# EAGLE library part 430450627 (library 430450627)
Micro-Fit 3.0 Vertical Header, 3.00mm Pitch, Dual Row, 6 Circuits, with PCB Polarizing Peg, Glow-Wire Capable, Black Source: Datasheet <https://www.molex.com/pdm_docs/sd/430450227_sd.pdf>
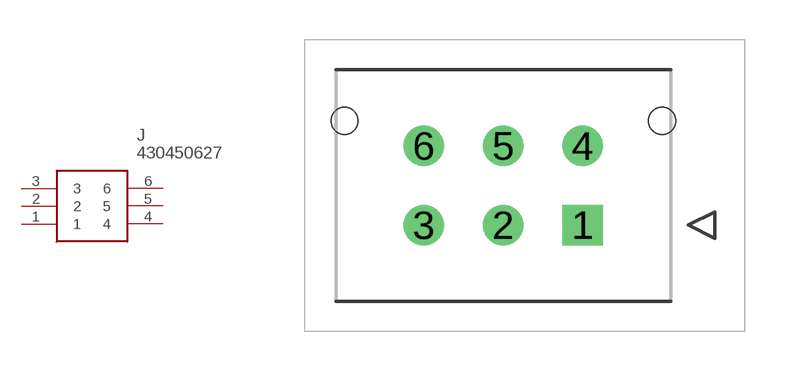
[diagram p0: symbol with the pads of 4304506YY_6; footprint 4304506YY_6]

Designator prefix J

## 430450627 (Arrow_Part_Number: 430450627; Arrow_Price-Stock: https://www.arrow.com/en/products/43045-0627/molex; Description: Micro-Fit 3.0 Vertical Header, 3.00mm Pitch, Dual Row, 6 Circuits, with PCB Polarizing Peg, Glow-Wire Capable, Black; Height: 9.91mm; Manufacturer_Name: Molex; Manufacturer_Part_Number: 430450627)  [4304506YY_6]
1  1
2  2
3  3
4  4
5  5
6  6

## Footprint 4304506YY_6 (pad centres in mm)
4304506YY_6
drill 1.02 pad 1.52 square: 1 0,0
drill 1.02 pad 1.52: 2 -3,0; 3 -6,0; 4 0,3; 5 -3,3; 6 -6,3
hole 1.02 at 3,3.94
hole 1.02 at -9,3.94